# EAGLE library part 1X08SMD/90M (library piccoli)
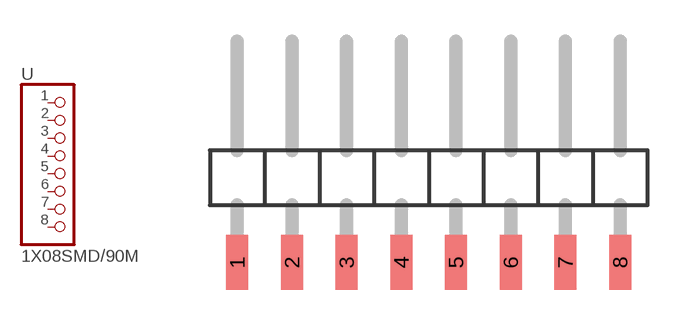
[diagram p5: symbol with the pads of 1X8M-90DEG-SMT; footprint 1X8M-90DEG-SMT]

Designator prefix -

## 1X08SMD/90M  [1X8M-90DEG-SMT]
1  1  pas
2  2  pas
3  3  pas
4  4  pas
5  5  pas
6  6  pas
7  7  pas
8  8  pas

## Footprint 1X8M-90DEG-SMT (pad centres in mm)
smd 0.8 x 2: 1 -7,-3; 2 -5,-3; 3 -3,-3; 4 -1,-3; 5 1,-3; 6 3,-3; 7 5,-3; 8 7,-3